# Altium schematic symbol library SN74AHC540.Schlib: 1 symbol
Pins are listed as number, name and electrical type; pins without a type are passive.

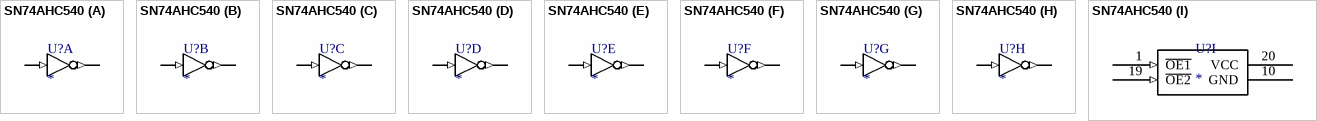
[diagram p0: symbol SN74AHC540]

## SN74AHC540
designator U?
IC, Buffer, inverting, octal
part A pins: 2 A1 (in), 18 Y1 (out)
part B pins: 3 A2 (in), 17 Y2 (out)
part C pins: 4 A3 (in), 16 Y3 (out)
part D pins: 5 A4 (in), 15 Y4 (out)
part E pins: 6 A5 (in), 14 Y5 (out)
part F pins: 7 A6 (in), 13 Y6 (out)
part G pins: 8 A7 (in), 12 Y7 (out)
part H pins: 9 A8 (in), 11 Y8 (out)
part I pins: 1 ~{OE1} (in), 10 GND (power), 19 ~{OE2} (in), 20 VCC (power)